# EAGLE library part LM10 (library TI)
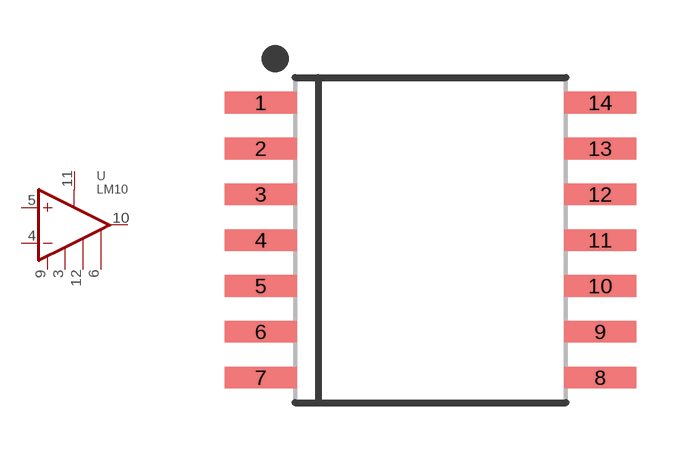
[diagram p22: symbol with the pads of SOIC-14-W; footprint SOIC-14-W]

Designator prefix U

## LM10CWMX/NOPBCT-ND  [SOIC-14-W]
3  REFOUT
4  -IN  in
5  +IN  in
6  V-
9  BALANCE  pwr
10  OUT  out
11  V+  pwr
12  FEEDBACK

## Footprint SOIC-14-W (pad centres in mm)
smd 2 x 0.6: 1 -4.7,3.81; 2 -4.7,2.54; 3 -4.7,1.27; 4 -4.7,0; 5 -4.7,-1.27; 6 -4.7,-2.54; 7 -4.7,-3.81; 8 4.7,-3.81; 9 4.7,-2.54; 10 4.7,-1.27; 11 4.7,0; 12 4.7,1.27; 13 4.7,2.54; 14 4.7,3.81